# Altium schematic symbol library Lichtschlag.SchLib: 3 symbols
Pins are listed as number, name and electrical type; pins without a type are passive.

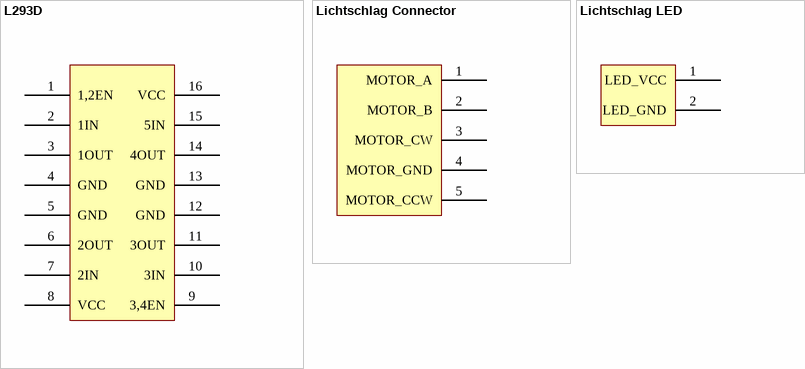
[diagram p0: symbols L293D to Lichtschlag LED]

## L293D
designator Q?
H-Bridge
footprint L293D
pins: 1 1,2EN, 2 1IN, 3 1OUT, 4 GND, 5 GND, 6 2OUT, 7 2IN, 8 VCC, 9 3,4EN, 10 3IN, 11 3OUT, 12 GND, 13 GND, 14 4OUT, 15 5IN, 16 VCC

## Lichtschlag Connector
designator Q?, comment L_CON
Lichtschlag Connector
footprint Lichschlag Connector
pins: 1 MOTOR_A, 2 MOTOR_B, 3 MOTOR_CW, 4 MOTOR_GND, 5 MOTOR_CCW

## Lichtschlag LED
designator Q?
NPN General Purpose Amplifier
footprint Lichtschlag LED
pins: 1 LED_VCC, 2 LED_GND